# Altium schematic symbol library ExtendBoard.SCHLIB: 49 symbols
Pins are listed as number, name and electrical type; pins without a type are passive.

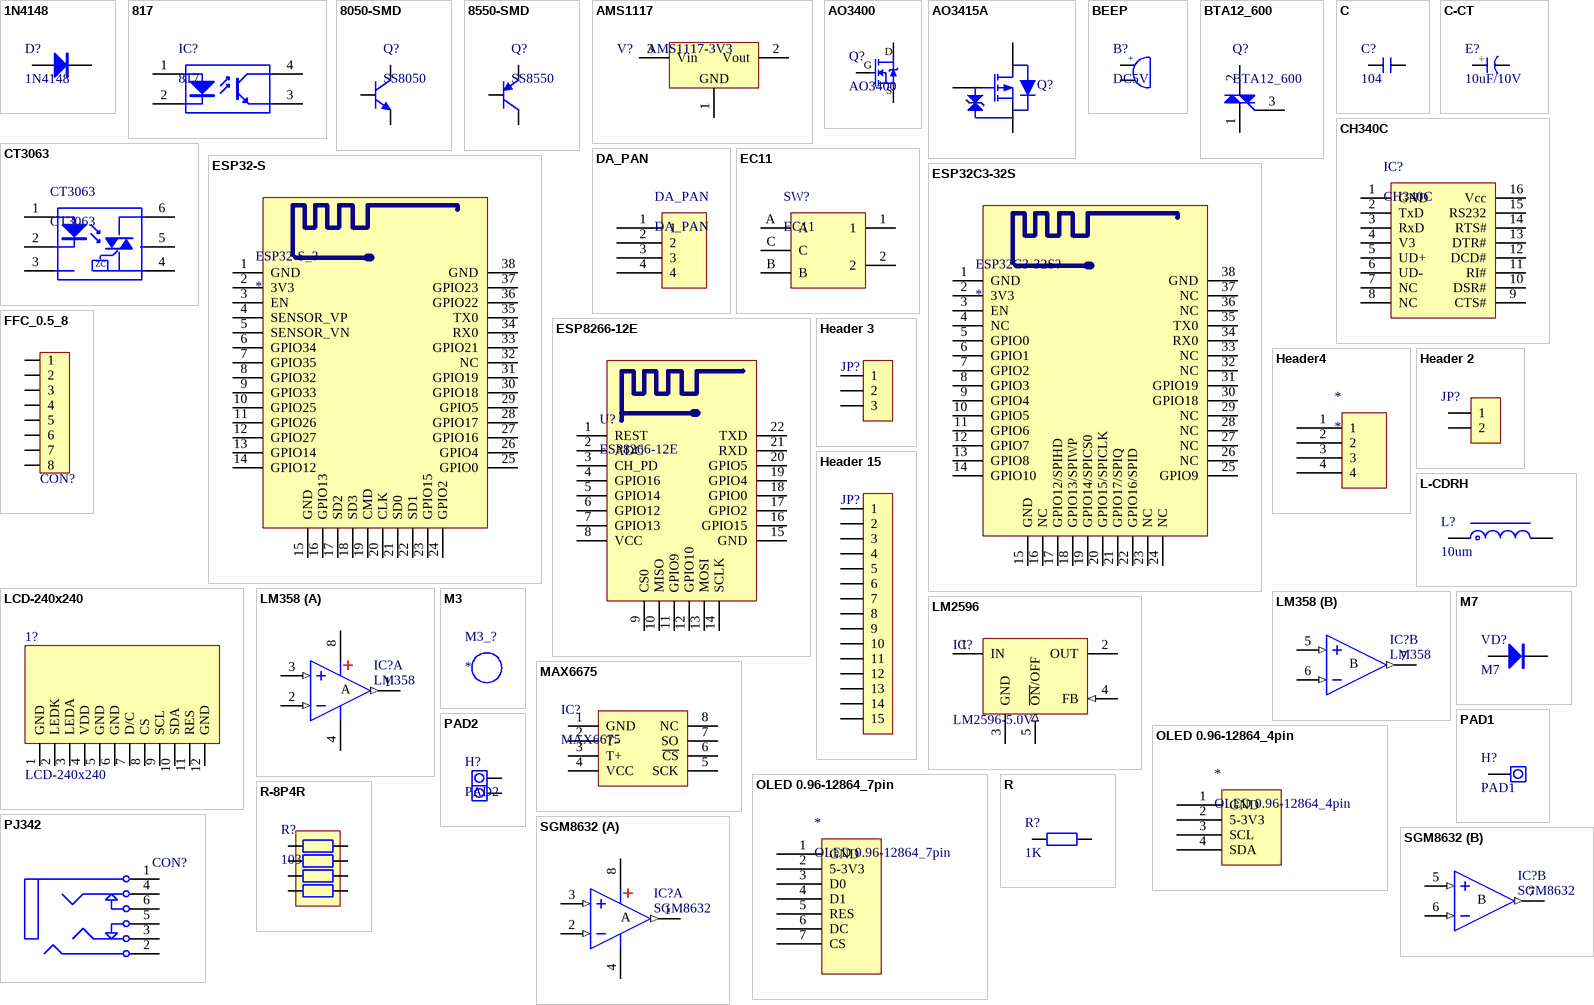
[diagram p0: symbols 1N4148 to SGM8632]

## 1N4148
designator D?
高速开关二极管; BOM名称: 高速开关二极管
footprint SOD-323 (1.8x1.3X0.9mm（长宽高，不包括引脚）)
pins: 1 A, 2 K

## 817
designator IC?
线性光耦; 版权归属: 源创客; BOM名称: 线性光耦; 学习资源: www.ooocke.com
footprint SOP4-W2.54_L (6.5*4.58*3.5mm（长宽高）)
footprint SOP4_L (4.4*6.8*2.1mm（长宽高）)
pins: 1 A "Anode", 2 K "Cathode", 3 E "Emitter", 4 C "Collector"

## 8050-SMD
designator Q?, comment SS8050
高频放大-NPN型; 版权归属: 源创客; 属性: 40V 1.5A 1W 100MHZ; BOM名称: 高频放大-NPN型; 学习资源: www.ooocke.com
footprint SOT23-3N (3x1.3x1mm(长宽高))
footprint SOT23-3L (3x1.3x1mm(长宽高))
footprint SOT23-3M (3x1.3x1mm(长宽高))
pins: 1 B, 2 E, 3 C

## 8550-SMD
designator Q?, comment SS8550
高频放大-PNP型; 版权归属: 源创客; 属性: 40V 1.5A 1W 100MHZ; BOM名称: 高频放大-PNP型; 学习资源: www.ooocke.com
footprint SOT23-3N (3x1.3x1mm(长宽高))
footprint SOT23-3L (3x1.3x1mm(长宽高))
footprint SOT23-3M (3x1.3x1mm(长宽高))
pins: 1 B, 2 E, 3 C

## AMS1117
designator V?, comment AMS1117-3V3
三端稳压芯片; BOM名称: 稳压芯片; 版权归属: 源创客; 学习资源: www.ooocke.com
footprint SOT223_L (6.4x7x1.6mm(长宽高))
footprint SOT223_N (6.4x7x1.6mm(长宽高))
pins: 1 GND, 2 Vout, 3 Vin

## AO3400
designator Q?
N沟道 30V/4.2A; BOM名称: 场效应管
footprint SOT23-3N (3x1.3x1mm(长宽高))
footprint SOT23-3L (3x1.3x1mm(长宽高))
footprint SOT23-3M (3x1.3x1mm(长宽高))
pins: 1 G, 2 S, 3 D

## AO3415A
designator Q?  (value not drawn)
MOSFET; Published: 8-Jun-2000; LatestRevisionDate: 17-Jul-2002; LatestRevisionNote: Re-released for DXP Platform.; PackageVersion: 1995/1996; PackageReference: E3; Publisher: Altium Limited; PackageDescription: TO, Flat Index; 3 In-Line, Axial Leads; Body Dia. 4.6mm; Lead Dia. 0.5 mm (max)
footprint SOT23-3 (SOT23, 3-Leads, Body 3.1x3.0mm (max), Pitch 0.95mm, IPC Medium Density)
pins: 1 G, 2 S, 3 D

## BEEP
designator B?, comment DC5V
蜂鸣器; 版权归属: 源创客; BOM名称: 蜂鸣器; 学习资源: www.ooocke.com
footprint BEEP 5x9x5.5 (5*9*5.5mm(脚距,直径,高度))
pins: 1, 2
text: +

## BTA12_600
designator Q?
双向可控硅; 版权归属: 源创客; BOM名称: 双向可控硅; 学习资源: www.ooocke.com
footprint TO220A (220，3脚晶体管)
footprint TO220B (220，3脚晶体管)
footprint TO252 (252晶体管)
footprint TO220C (220，3脚晶体管)
pins: 1 A1, 2 A2, 3 G

## C
designator C?, comment 104
无极性贴片电容; 版权归属: 源创客; BOM名称: 无极性贴片电容; 学习资源: www.ooocke.com
footprint C 0603 (无极性贴片电容)
footprint C 0805_L (无极性贴片电容)
footprint C 1206_L (无极性贴片电容)
footprint C 1210_L (无极性贴片电容)
footprint C 1808_L (无极性贴片电容)
footprint C 1812_L (无极性贴片电容)
footprint C 1825_L (无极性贴片电容)
pins: 1, 2

## C-CT
designator E?, comment 10uF/10V
贴片固态电容; 版权归属: 源创客; BOM名称: 贴片固态电容; 学习资源: www.ooocke.com
footprint CT 5*6 - C (直径5mm，高6mm)
footprint CT 6*6 - C (直径6mm，高6mm)
footprint CT 8*7 - C (直径8mm，高7mm)
footprint CT 8*12 - C (直径8mm，高12mm)
footprint CT 10*6 - C (直径10mm，高6mm)
footprint CT 10*8 - C (直径10mm，高8mm)
footprint CT 10*13 - C (直径10mm，高13mm)
pins: 1 A, 2 K
text: +

## CH340C
designator IC?
串口转USB; BOM名称: 串口转USB
footprint SOP16_L (10.3*6.2*1.8mm（长宽高）)
footprint SOP16_N (10.3*6.2*1.8mm（长宽高）)
footprint SOP16_M (10.3*6.2*1.8mm（长宽高）)
footprint DIP16-300 (19.3*7.6*3.8(长宽高）)
pins: 1 GND, 2 TxD, 3 RxD, 4 V3, 5 UD+, 6 UD-, 7 NC, 8 NC, 9 CTS#, 10 DSR#, 11 RI#, 12 DCD#, 13 DTR#, 14 RTS#, 15 RS232, 16 Vcc

## CT3063
designator CT3063
线性光耦（过零检测）; BOM名称: 线性光耦; 版权归属: 源创客; 学习资源: www.ooocke.com
footprint SMD-6 (SOP, 6-Leads, Body 7.12x6.50mm, Pitch 2.54mm, IPC Medium Density)
footprint SMD-6-CT3063 (SOP, 6-Leads, Body 7.12x6.50mm, Pitch 2.54mm, IPC Medium Density)
pins: 1 A "Anode", 2 C "Cathode", 3 NC "Cathode", 4 MT2 "Emitter", 5 NC "Emitter", 6 MT1 "Collector"
text: ZC

## DA_PAN
designator DA_PAN
footprint DA_PAN
pins: 1, 2, 3, 4

## EC11
designator SW?
数字开关编码器; BOM名称: 数字编码开关; 版权归属: 源创客; 学习资源: www.ooocke.com
footprint EC11 (数字开关编码器)
footprint EC11-B (数字开关编码器)
footprint EC11-DEEP (数字开关编码器)
pins: 1, 2, A, B, C

## ESP32-S
designator ESP32-S_?
footprint WIFIM-SMD_ESP32-S32MB
footprint WIFIM-SMD_ESP32-C3S-2M
pins: 1 GND, 2 3V3, 3 EN, 4 SENSOR_VP, 5 SENSOR_VN, 6 GPIO34, 7 GPIO35, 8 GPIO32, 9 GPIO33, 10 GPIO25, 11 GPIO26, 12 GPIO27, 13 GPIO14, 14 GPIO12, 15 GND, 16 GPIO13, 17 SD2, 18 SD3, 19 CMD, 20 CLK, 21 SD0, 22 SD1, 23 GPIO15, 24 GPIO2, 25 GPIO0, 26 GPIO4, 27 GPIO16, 28 GPIO17, 29 GPIO5, 30 GPIO18, 31 GPIO19, 32 NC, 33 GPIO21, 34 RX0, 35 TX0, 36 GPIO22, 37 GPIO23, 38 GND

## ESP32C3-32S
designator ESP32C3-32S?
footprint WIFIM-SMD_ESP32-S32MB
footprint WIFIM-SMD_ESP32-C3S-2M
pins: 1 GND, 2 3V3, 3 EN, 4 NC, 5 GPIO0, 6 GPIO1, 7 GPIO2, 8 GPIO3, 9 GPIO4, 10 GPIO5, 11 GPIO6, 12 GPIO7, 13 GPIO8, 14 GPIO10, 15 GND, 16 NC, 17 GPIO12/SPIHD, 18 GPIO13/SPIWP, 19 GPIO14/SPICS0, 20 GPIO15/SPICLK, 21 GPIO17/SPIQ, 22 GPIO16/SPID, 23 NC, 24 NC, 25 GPIO9, 26 NC, 27 NC, 28 NC, 29 NC, 30 GPIO18, 31 GPIO19, 32 NC, 33 NC, 34 RX0, 35 TX0, 36 NC, 37 NC, 38 GND

## ESP8266-12E
designator U?
串口 WIFI模块，ESP-12E; BOM名称: WIFI模块; 版权归属: 源创客; 学习资源: www.ooocke.com
footprint ESP_12E (ESP-12 Wi-Fi Module by AI-Thinker)
pins: 1 REST, 2 ADC, 3 CH_PD, 4 GPIO16, 5 GPIO14, 6 GPIO12, 7 GPIO13, 8 VCC, 9 CS0, 10 MISO, 11 GPIO9, 12 GPIO10, 13 MOSI, 14 SCLK, 15 GND, 16 GPIO15, 17 GPIO2, 18 GPIO0, 19 GPIO4, 20 GPIO5, 21 RXD, 22 TXD

## FFC_0.5_8
designator CON?  (value not drawn)
FFC; System: Connector
footprint FFC_0.5_8
pins: 1, 2, 3, 4, 5, 6, 7, 8

## Header4
designator *
footprint HDR-1X4_M (排母，4脚)
footprint HDR-1X4_H (弯脚排针，4脚)
footprint HDR-1X4 (排针，4脚)
footprint HDR2.54-LI-4P (排针，4脚)
pins: 1, 2, 3, 4

## Header 2
designator JP?, comment HDR-1X2  (value not drawn)
2P接插件; 版权归属: 源创客; BOM名称: 2P接插件; 学习资源: www.ooocke.com
footprint HDR-1X2 (排针，2脚)
footprint HDR-1X2_M (排母，2脚)
footprint KF301-2P (可拼接端子/6A)
footprint XH2.54-LS-2P (长：10mm，宽：6mm，高：8.3mm)
footprint KF2EDGK5.08-WI-2P (卧插端子)
footprint KF2EDGK5.0-WI-2P (卧插端子)
footprint KF2EDGK5.0-LI-2P (立插端子)
footprint XH2.54-WI-2P (接插件，2P)
footprint PAN*2
pins: 1, 2

## Header 3
designator JP?, comment HDR-1X3  (value not drawn)
3P接插件; 版权归属: 源创客; BOM名称: 3P接插件; 学习资源: www.ooocke.com
footprint HDR-1X3 (排针，3脚)
footprint HDR-1X3_M (排母，3脚)
footprint HDR-1X3_Y (圆孔排母，3脚)
footprint HDR-1X3R
pins: 1, 2, 3

## Header 15
designator JP?, comment HDR-1X15  (value not drawn)
15P接插件; 版权归属: 源创客; BOM名称: 15P接插件; 学习资源: www.ooocke.com
footprint HDR2.54-LI-15P (排针，15脚)
footprint HDR2.54-M-LI-15P (排母，15脚)
pins: 1, 2, 3, 4, 5, 6, 7, 8, 9, 10, 11, 12, 13, 14, 15

## L-CDRH
designator L?, comment 10um
功率屏蔽电感; 版权归属: 源创客; BOM名称: 功率屏蔽电感; 学习资源: www.ooocke.com
footprint CDRH73 (7.3*7.3*3.4mm（长宽高）)
footprint CDRH74 (7.3*7.3*4.5mm（长宽高）)
footprint CDRH124 (12*12*4.5mm（长宽高）)
footprint CDRH125 (12*12*5mm（长宽高）)
footprint CDRH127 (12*12*8mm（长宽高）)
footprint CDRH129 (12*12*9.5mm（长宽高）)
pins: 1, 2

## LCD-240x240
designator 1?
显示屏
footprint LCD-240x240
footprint LCD-240x240-NoHole
footprint LCD-ST7789
pins: 1 GND, 2 LEDK, 3 LEDA, 4 VDD, 5 GND, 6 GND, 7 D/C, 8 CS, 9 SCL, 10 SDA, 11 RES, 12 GND

## LM358
designator IC?
双路运放
footprint SOP8_L (5*6*1.8mm（长宽高）)
footprint SOP8_N (5*6*1.8mm（长宽高）)
footprint SOP8_M (5*6*1.8mm（长宽高）)
footprint DIP8-300 (9.4*7.6*3.8(长宽高）)
part A pins: 1 OUT (out), 2 IN- (in), 3 IN+ (in), 4 V- (power), 8 V+ (power)
part B pins: 5 IN+ (in), 6 IN- (in), 7 OUT (out)
part A text: A
part B text: B

## LM2596
designator IC?, comment LM2596-5.0V
DC降压芯片; BOM名称: DC稳压芯片; 版权归属: 源创客; 学习资源: www.ooocke.com
footprint TO263-5A (263，5脚晶体管)
pins: 1 IN (power), 2 OUT (power), 3 GND (power), 4 FB (in), 5 ~{ON}/OFF (in)

## M3
designator M3_?
铜柱孔; BOM名称: 铜柱孔
footprint M3 140X350 (M3螺丝孔，孔140Mil，焊盘350Mil)
footprint M3 125X300 (M3螺丝孔，孔125Mil，焊盘300Mil)
footprint M3 125X200 (M3螺丝孔，孔125Mil，焊盘200Mil)

## M7
designator VD?
整流二极管; 版权归属: 源创客; BOM名称: 整流二极管; 学习资源: www.ooocke.com
footprint SMA (4.5x2.6*2.2mm（长宽高，不包括引脚）)
pins: 1 A, 2 K

## MAX6675
designator IC?
K型热电偶检测芯片; 版权归属: 源创客; BOM名称: K型热电偶检测芯片; 学习资源: www.ooocke.com
footprint SOP8_N (5*6*1.8mm（长宽高）)
footprint SOP8_L (5*6*1.8mm（长宽高）)
footprint SOP8_M (5*6*1.8mm（长宽高）)
pins: 1 GND, 2 T-, 3 T+, 4 VCC, 5 SCK, 6 ~{CS}, 7 SO, 8 NC

## OLED 0.96-12864_4pin
designator *
12864 点阵屏
footprint OLED 0.96-12864_4pin
pins: 1 GND, 2 5-3V3, 3 SCL, 4 SDA

## OLED 0.96-12864_7pin
designator *
12864 点阵屏
footprint OLED 1.3-12864_7pin (长：35.4mm，宽：33.5mm，)
pins: 1 GND, 2 5-3V3, 3 D0, 4 D1, 5 RES, 6 DC, 7 CS

## PAD1
designator H?
引线焊盘; BOM名称: 引线焊盘
footprint PAD1-A (引线焊盘)
footprint PAD1-B (引线焊盘)
footprint PAD1-C (引线焊盘)
footprint PAD1-SMD-A (引线焊盘)
footprint PAD1-SMD-B (引线焊盘)
footprint PAD1-SMD-C (引线焊盘)
pins: 1

## PAD2
designator H?
引线焊盘; BOM名称: 引线焊盘
footprint PAD2-5.08
footprint PAD2-2.54 (引线焊盘)
footprint PAD2-2.0 (引线焊盘)
pins: 1, 2

## PJ342
designator CON?  (value not drawn)
3.5耳机插座,4Pin; BOM名称: 耳机插座
footprint PJ342A (有头)
footprint PJ342B (沉板式，无头)
pins: 1, 2, 3, 4, 5, 6

## R
designator R?, comment 1K
贴片电阻; 版权归属: 源创客; BOM名称: 贴片电阻; 学习资源: www.ooocke.com
footprint R 0603 (1/10W贴片电阻)
footprint R 0805 (1/8W贴片电阻)
footprint R 0805_L (1/8W贴片电阻)
footprint R 1206_L (1/4W贴片电阻)
footprint R 1210_L (1/3W贴片电阻)
footprint R 1812_L (1/2W贴片电阻)
footprint R 2512_L (1W贴片电阻)
pins: 1, 2

## R-8P4R
designator R?, comment 103
贴片网络排阻; 版权归属: 源创客; BOM名称: 贴片网络排阻; 学习资源: www.ooocke.com
footprint RCA-8P4R-0402 (2mm*1mm*0.45mm(长*宽*厚))
footprint RCA-8P4R-0603 (3.2mm*1.6mm*0.6mm(长*宽*厚))
pins: 1, 2, 3, 4, 5, 6, 7, 8

## SGM8632
designator IC?
轨到轨双路运放
footprint SOP8_L (5*6*1.8mm（长宽高）)
footprint SOP8_N (5*6*1.8mm（长宽高）)
footprint SOP8_M (5*6*1.8mm（长宽高）)
footprint DIP8-300 (9.4*7.6*3.8(长宽高）)
part A pins: 1 OUT (out), 2 IN- (in), 3 IN+ (in), 4 V- (power), 8 V+ (power)
part B pins: 5 IN+ (in), 6 IN- (in), 7 OUT (out)
part A text: A
part B text: B

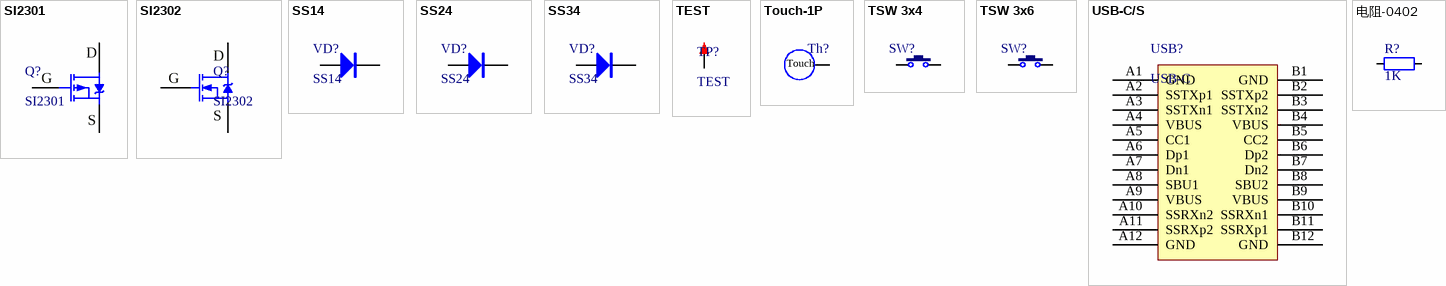
[diagram p1: symbols SI2301 to 电阻-0402]

## SI2301
designator Q?
P沟道场效应管; 版权归属: 源创客; BOM名称: P沟道场效应管; 学习资源: www.ooocke.com
footprint SOT23-3N (3x1.3x1mm(长宽高))
footprint SOT23-3L (3x1.3x1mm(长宽高))
footprint SOT23-3M (3x1.3x1mm(长宽高))
pins: 1 G, 2 S, 3 D

## SI2302
designator Q?
N沟道场效应管; 版权归属: 源创客; BOM名称: N沟道场效应管; 学习资源: www.ooocke.com
footprint SOT23-3N (3x1.3x1mm(长宽高))
footprint SOT23-3L (3x1.3x1mm(长宽高))
footprint SOT23-3M (3x1.3x1mm(长宽高))
pins: 1 G, 2 S, 3 D

## SS14
designator VD?
肖特基二极管; 版权归属: 源创客; 属性: 40V/1A; BOM名称: 肖特基二极管; 学习资源: www.ooocke.com
footprint SMA (4.5x2.6*2.2mm（长宽高，不包括引脚）)
footprint SMB (4.7*3.9*2.2mm(长宽高，不包括引脚）)
footprint SMC (7.1x5.9*2.3mm（长宽高，不包括引脚）)
pins: 1 A, 2 K

## SS24
designator VD?
肖特基二极管; 版权归属: 源创客; 属性: 40V/2A; BOM名称: 肖特基二极管; 学习资源: www.ooocke.com
footprint SMB (4.7*3.9*2.2mm(长宽高，不包括引脚）)
footprint SMA (4.5x2.6*2.2mm（长宽高，不包括引脚）)
footprint SMC (7.1x5.9*2.3mm（长宽高，不包括引脚）)
pins: 1 A, 2 K

## SS34
designator VD?
肖特基二极管; 版权归属: 源创客; 属性: 40V/3A; BOM名称: 肖特基二极管; 学习资源: www.ooocke.com
footprint SMC (7.1x5.9*2.3mm（长宽高，不包括引脚）)
footprint SMA (4.5x2.6*2.2mm（长宽高，不包括引脚）)
footprint SMB (4.7*3.9*2.2mm(长宽高，不包括引脚）)
pins: 1 A, 2 K

## TEST
designator TP?
测试点; BOM名称: 测试点
footprint TEST 1 (测试点1mm)
footprint TEST 1.6 (测试点1.6mm)
footprint TEST 1.4 (测试点1.4mm)
footprint TEST 1.8 (测试点1.8mm)
footprint TEST 1.2 (测试点1.2mm)
footprint TEST 0.8 (测试点0.8mm)
footprint TEST 2.0 (测试点2.0mm)
footprint TEST 2.2 (测试点2.2mm)
footprint TEST 2.4 (测试点2.4mm)
footprint TEST 2.6 (测试点2.6mm)
pins: 1

## Touch-1P
designator Th?, comment Touch 10X10mm  (value not drawn)
触控焊盘; BOM名称: 触控焊盘
footprint Touch-10X10mm (触摸焊盘10mm*10mm)
footprint Touch-6X6mm (触摸焊盘6mm*6mm)
footprint Touch-6X10mm (触摸焊盘6mm*10mm)
footprint Touch-7X7mm (触摸焊盘7mm*7mm)
footprint Touch-7X12mm (触摸焊盘7mm*12mm)
footprint Touch-8X8mm (触摸焊盘8mm*8mm)
footprint Touch-8X15mm (触摸焊盘8mm*15mm)
footprint Touch-10X20mm (触摸焊盘10mm*20mm)
footprint Touch-12X12mm (触摸焊盘12mm*12mm)
footprint Touch-15X15mm (触摸焊盘15mm*15mm)
footprint Touch-10X15mm (触摸焊盘10mm*15mm)
footprint Touch-12X20mm (触摸焊盘12mm*20mm)
footprint Touch-15X25mm (触摸焊盘15mm*25mm)
footprint Touch-5X5mm (触摸焊盘7mm*7mm)
pins: Touch

## TSW 3x4
designator SW?, comment 3*4*2  (value not drawn)
3x4轻触开关; BOM名称: 3x6轻触开关; 版权归属: 源创客; 学习资源: www.ooocke.com
footprint TSW SMD-3*4*2 (3*4*2mm)
footprint TSW 3*6*4.3-S-W (侧立贴片3*6*4.3)
pins: 1, 2

## TSW 3x6
designator SW?, comment 3x6x5  (value not drawn)
3x6轻触开关; 版权归属: 源创客; BOM名称: 3x6轻触开关; 学习资源: www.ooocke.com
footprint TSW SMD-3*6*2.5 (3*6*2.5mm)
footprint TSW 3*6*4.3-S-W (侧立贴片3*6*4.3)
pins: 1, 2

## USB-C/S
designator USB?, comment USB-C
USB-C型母接口; BOM名称: USB-C型母接口
footprint USB Type-C-16Pin_A
footprint USB Type-C-24Pin_A
footprint USB Type-C-6Pin_A
pins: A1 GND, A2 SSTXp1, A3 SSTXn1, A4 VBUS, A5 CC1, A6 Dp1, A7 Dn1, A8 SBU1, A9 VBUS, A10 SSRXn2, A11 SSRXp2, A12 GND, B1 GND, B2 SSTXp2, B3 SSTXn2, B4 VBUS, B5 CC2, B6 Dp2, B7 Dn2, B8 SBU2, B9 VBUS, B10 SSRXn1, B11 SSRXp1, B12 GND

## 电阻-0402
designator R?, comment 1K
Resistor; Value: 22R
footprint RES_0402
pins: 1, 2